# Altium footprint library DigitalBuckBoost.PcbLib: 10 footprints
Each footprint in its own frame and in the unit in brackets; x right, y up, seen from the top. Pads: shape width x height; smd on the part's side, far side on the other; paste and mask are expansions set on the pad; w line width, h text height; cw(c..) or ccw(c..) is an arc to the next point about the centre after c.
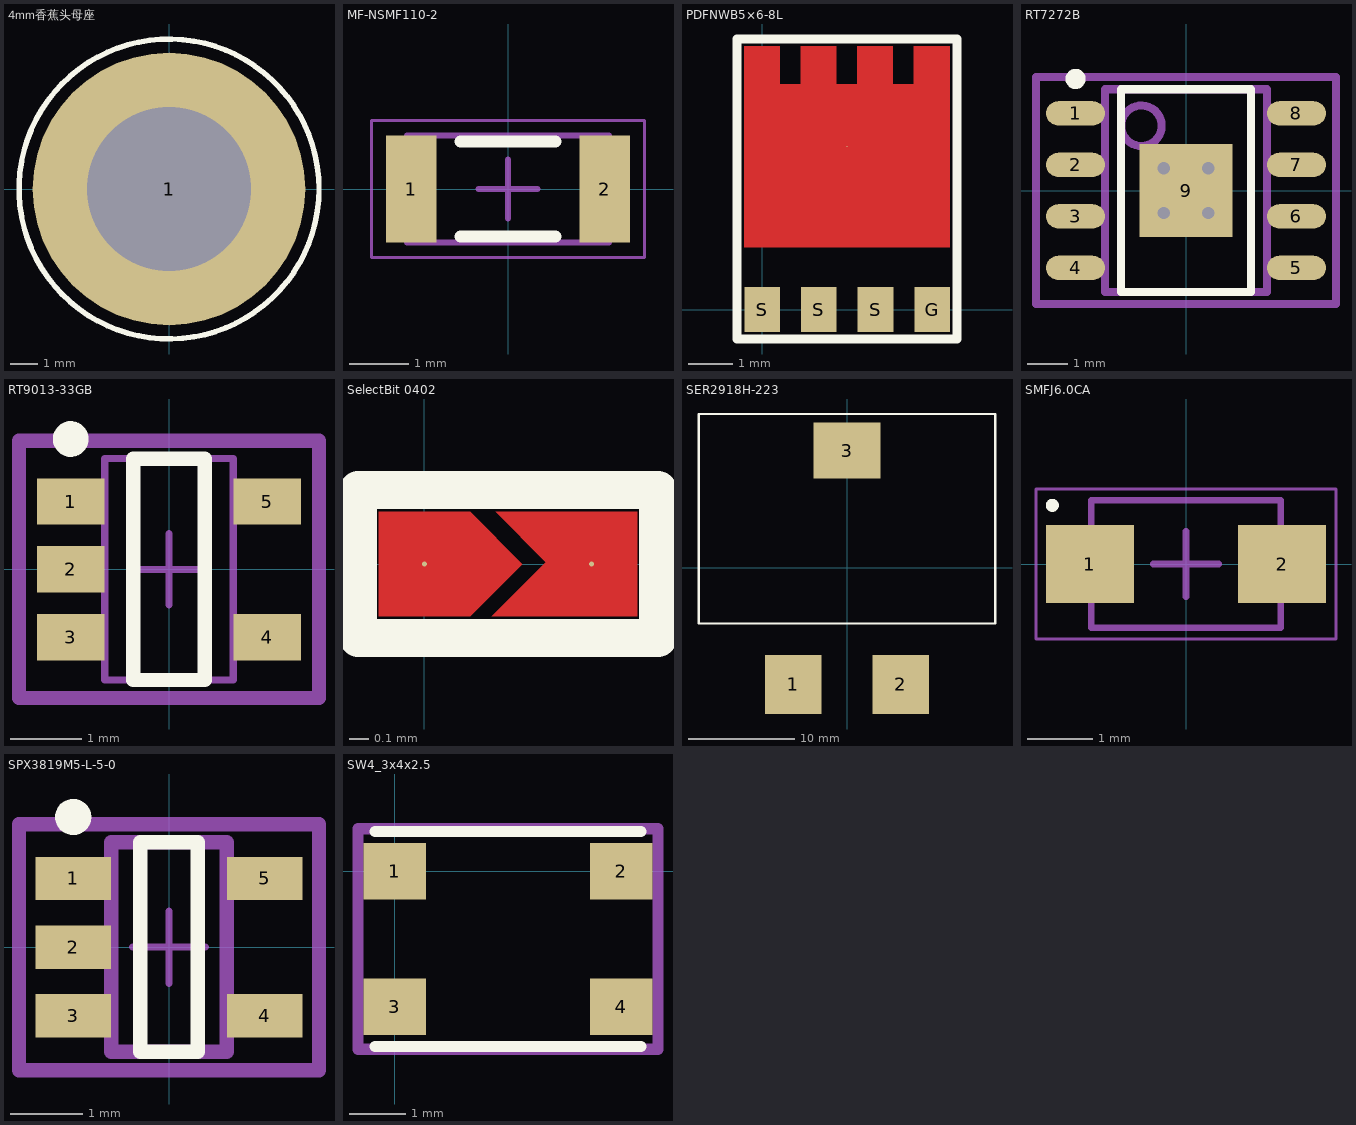
[diagram p0: the footprints below, top view; thin cyan lines are the x and y axes]

## 4mm香蕉头母座 [mm]
pads (1):
  round 10 hole 6: 1(0,0)
Top Overlay:
  circle w0.2: c0,0 r5.5

## MF-NSMF110-2 [mm] "贴片自恢复保险丝1206"
height 0.7
pads (2):
  rect 0.85x1.8 smd: 1(-1.625,0) 2(1.625,0)
Top Overlay:
  lines w0.2: -0.8,-0.8 0.8,-0.8 ; -0.8,0.8 0.8,0.8
Top Courtyard:
  lines w0.05: -2.3,-1.15 -2.3,1.15 2.3,1.15 2.3,-1.15 -2.3,-1.15
  lines w0.1: -0.5,0 0.5,0 ; 0,-0.5 0,0.5
Mechanical 13:
  lines w0.1: -1.7,-0.9 -1.7,0.9 1.7,0.9 1.7,-0.9 -1.7,-0.9
3D body "PPTC1206.stp": height 0.71, standoff -0.02, extent -1.675,-0.825 1.675,0.825

## PDFNWB5×6-8L [mm]
pads (5):
  round 0.025 smd: D(1.9,3.65)
  rect 0.8x1 smd: G(3.81,0) S(0,0) S(1.27,0) S(2.54,0)
Top Layer:
  region: -0.4,1.4 4.2,1.4 4.2,5.9 3.4,5.9 3.4,5.05 2.93,5.05 2.93,5.9 2.13,5.9 2.13,5.05 1.66,5.05 1.66,5.9 0.86,5.9 0.86,5.05 0.39,5.05 0.39,5.9 -0.4,5.9
Top Overlay:
  lines w0.2: -0.56,-0.66 -0.56,6.06 4.36,6.06 4.36,-0.66 -0.56,-0.66
3D body "pdfn5x6.step": height 1.02, standoff 0, extent -0.6,-0.35 4.4,5.65

## RT7272B [mm] "SOP, 8-Leads, Body 4.90x3.91mm, Pitch 1.27mm, Thermal Pad 2.30x2.30mm, IPC Medium Density"
height 1.76
pads (9):
  oval 1.45x0.6 smd: 1(-2.725,1.905) 2(-2.725,0.635) 3(-2.725,-0.635) 4(-2.725,-1.905) 5(2.725,-1.905) 6(2.725,-0.635) 7(2.725,0.635) 8(2.725,1.905)
  rect 2.3x2.3 smd: 9(0,0)
via 0.55,-0.55 diameter 0.5 hole 0.3
via -0.55,-0.55 diameter 0.5 hole 0.3
via 0.55,0.55 diameter 0.5 hole 0.3
via -0.55,0.55 diameter 0.5 hole 0.3
Top Overlay:
  circle w0.25: c-2.725,2.755 r0.125
  lines w0.2: -1.6,-2.5 1.6,-2.5 1.6,2.5 -1.6,2.5 -1.6,-2.5
Mechanical 13:
  circle w0.2: c-1.1,1.6 r0.5
  lines w0.1: -0.5,0 0.5,0 ; 0,-0.5 0,0.5
  lines w0.2: -3.7,-2.8 3.7,-2.8 3.7,2.8 -3.7,2.8 -3.7,-2.8 ; -2,-2.5 2,-2.5 2,2.5 -2,2.5 -2,-2.5
3D body: height 1.76, standoff 0.15, extent -2,-2.5 2,2.5

## RT9013-33GB [mm]
height 1.3
pads (5):
  rect 0.95x0.65 smd: 1(-1.375,0.95) 2(-1.375,0) 3(-1.375,-0.95) 4(1.375,-0.95) 5(1.375,0.95)
Top Overlay:
  circle w0.25: c-1.375,1.825 r0.125
  lines w0.2: -0.5,-1.55 -0.5,1.55 0.5,1.55 0.5,-1.55 -0.5,-1.55
Mechanical 13:
  lines w0.1: -0.5,0 0.5,0 ; 0,-0.5 0,0.5 ; -0.9,-1.55 0.9,-1.55 0.9,1.55 -0.9,1.55 -0.9,-1.55
  lines w0.2: -2.1,-1.8 2.1,-1.8 2.1,1.8 -2.1,1.8 -2.1,-1.8
3D body: height 1.3, standoff 0, extent -0.9,-1.55 0.9,1.55

## SelectBit 0402 [mil]
pads (2):
  round 1 smd paste-99999 mask+0: 1(0,0) 2(34.65,0)
Top Layer:
  region: 9.45,10.83 -9.45,10.83 -9.45,-10.83 9.45,-10.83 20.28,0
  region: 13.98,-10.83 44.09,-10.83 44.09,10.83 14.76,10.83 25.2,0.39
Top Overlay:
  lines w7.87: -13.78,-15.35 -13.78,15.35 48.43,15.35 48.43,-15.35 -13.78,-15.35

## SER2918H-223 [mm] "大电流扁平线电感 22uH"
pads (3):
  rect 5.33x5.59 smd: 1(-5.075,-11.037) 2(5.075,-11.037)
  rect 6.35x5.28 smd: 3(0,11.038)
Top Overlay:
  lines w0.2: -14,-5.3 14,-5.3 14,14.5 -14,14.5 -14,-5.3 ; -14,-5.3 -14,-5.3
3D body "Coilcraft-SER2918H.step": height 17.72, standoff -0.06, extent -13.926,-12.138 13.976,14.903

## SMFJ6.0CA [mm] "贴片TVS瞬变抑制二极管 6V/双向"
height 1.4
pads (2):
  rect 1.35x1.2 smd: 1(-1.475,0) 2(1.475,0)
Top Overlay:
  circle w0.1: c-2.05,0.9 r0.05
Top Courtyard:
  lines w0.05: -2.3,-1.15 2.3,-1.15 2.3,1.15 -2.3,1.15 -2.3,-1.15
  lines w0.1: -0.5,0 0.5,0 ; 0,-0.5 0,0.5
Mechanical 13:
  lines w0.1: -1.45,-0.975 1.45,-0.975 1.45,0.975 -1.45,0.975 -1.45,-0.975
3D body: height 1.4, standoff 0, extent -1.45,-0.975 1.45,0.975

## SPX3819M5-L-5-0 [mm] "SOT23, 5-Leads, Body 2.90x2.80mm, Pitch 0.95mm, IPC Medium Density"
height 1.45
pads (5):
  rect 1.05x0.6 smd: 1(-1.325,0.95) 2(-1.325,0) 3(-1.325,-0.95) 4(1.325,-0.95) 5(1.325,0.95)
Top Overlay:
  circle w0.25: c-1.325,1.8 r0.125
  lines w0.2: -0.4,-1.45 0.4,-1.45 0.4,1.45 -0.4,1.45 -0.4,-1.45
Mechanical 13:
  lines w0.1: -0.5,0 0.5,0 ; 0,-0.5 0,0.5
  lines w0.2: -2.075,-1.7 -2.075,1.7 2.075,1.7 2.075,-1.7 -2.075,-1.7 ; -0.8,-1.45 -0.8,1.45 0.8,1.45 0.8,-1.45 -0.8,-1.45
3D body: height 1.45, standoff 0, extent -0.8,-1.45 0.8,1.45

## SW4_3x4x2.5 [mm]
pads (4):
  rect 1.1x1 smd: 1(0,0) 2(4,0) 3(0,-2.4) 4(4,-2.4)
Top Overlay:
  lines w0.2: -0.35,-3.1 4.35,-3.1 ; -0.35,0.7 4.35,0.7
Mechanical 13:
  lines w0.2: -0.65,-3.15 4.65,-3.15 4.65,0.75 -0.65,0.75 -0.65,-3.15
3D body "轻触开关4脚 3x4x2.5mm v3.step": height 2.5, standoff 0, extent -0.36,-2.9 4.365,0.5